# Altium footprint library Connector.PCBLIB: 82 footprints (part 1 of 6)
Each footprint in its own frame and in the unit in brackets; x right, y up, seen from the top. Pads: shape width x height; smd on the part's side, far side on the other; paste and mask are expansions set on the pad; w line width, h text height; cw(c..) or ccw(c..) is an arc to the next point about the centre after c.
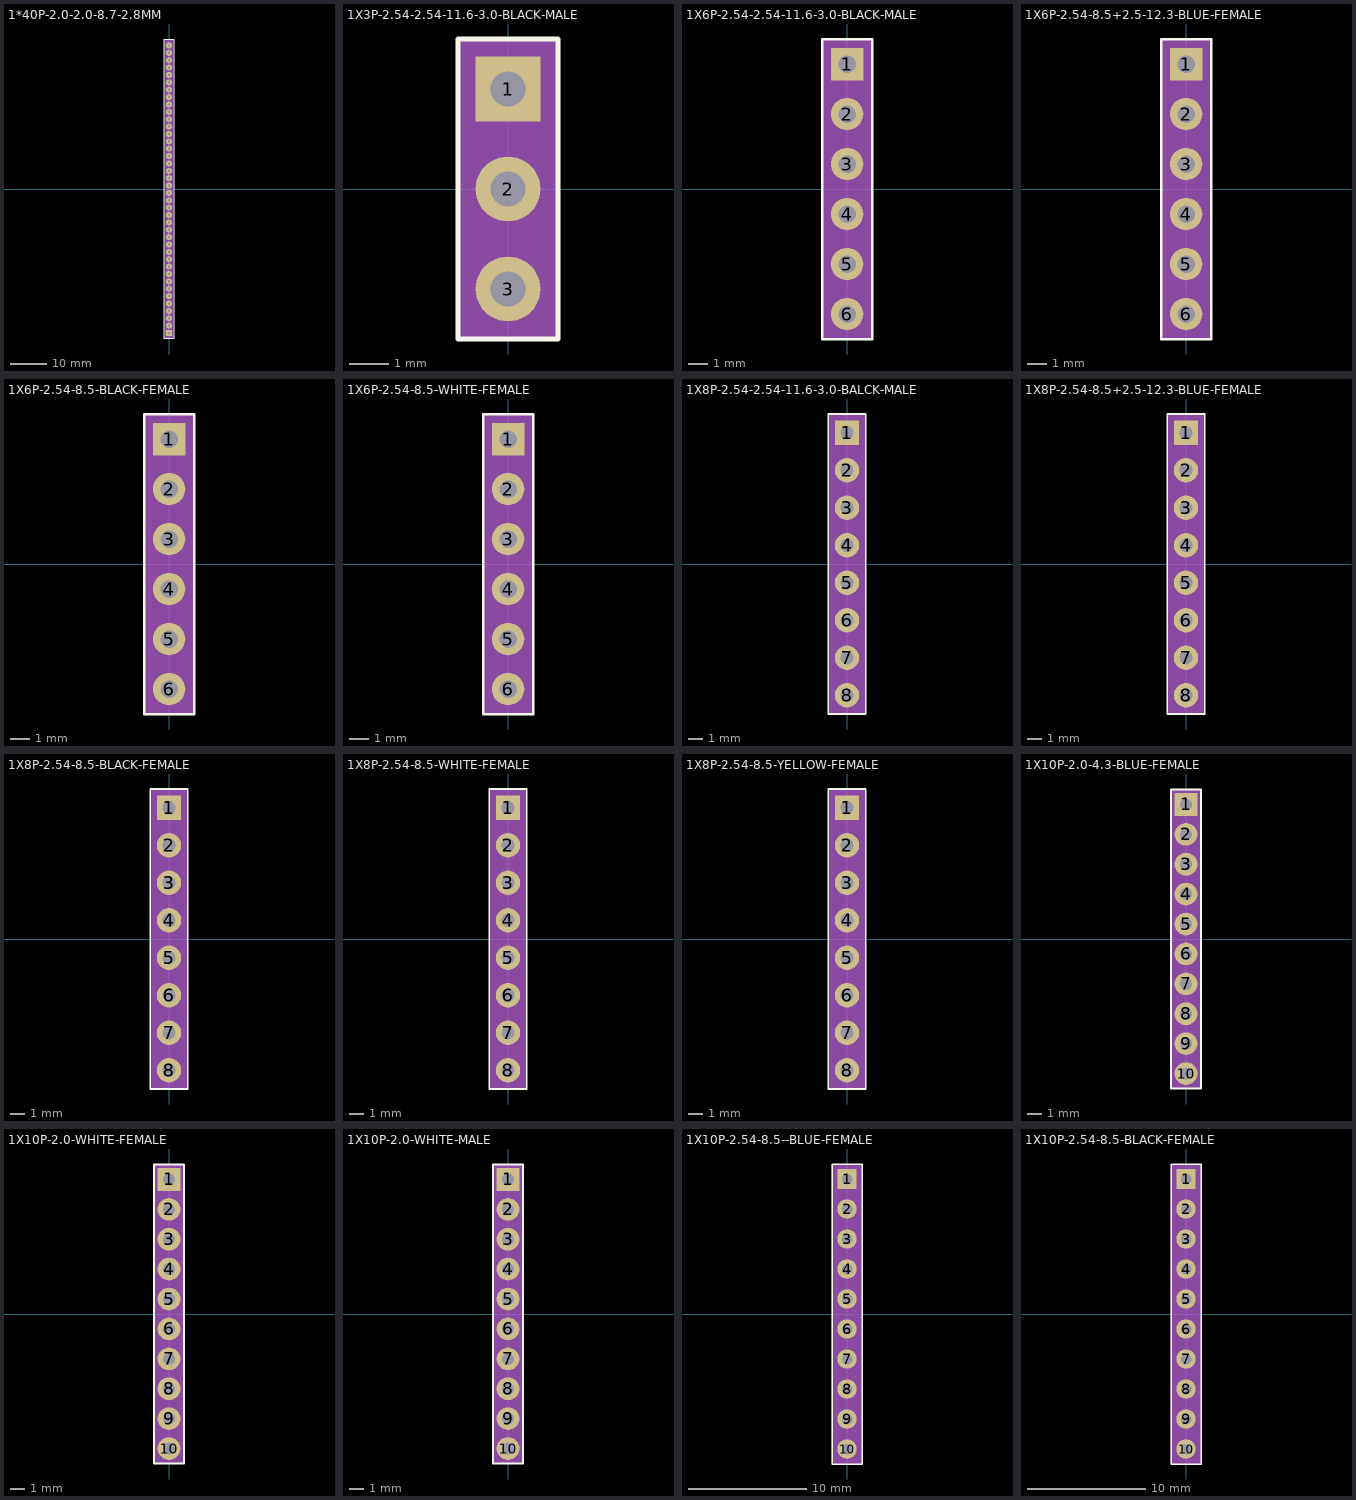
[diagram p0: the footprints below, top view; thin cyan lines are the x and y axes]

## 1*40P-2.0-2.0-8.7-2.8MM [mil]
pads (40):
  rect 65x65 hole 35: 1(0,-1535.43)
  round 65 hole 35: 2(0,-1456.69) 3(0,-1377.95) 4(0,-1299.21) 5(0,-1220.47) 6(0,-1141.73) 7(0,-1062.99) 8(0,-984.25) 9(0,-905.51) 10(0,-826.77) 11(0,-748.03) 12(0,-669.29) 13(0,-590.55) 14(0,-511.81) 15(0,-433.07) 16(0,-354.33) 17(0,-275.59) 18(0,-196.85) 19(0,-118.11) 20(0,-39.37) 21(0,39.37) 22(1,118.11) 23(0,196.85) 24(0,275.59) 25(0,354.33) 26(0,433.07) 27(0,511.81) 28(0,590.55) 29(0,669.29) 30(0,748.03) 31(0,826.77) 32(0,905.51) 33(0,984.25) 34(0,1062.99) 35(0,1141.73) 36(0,1220.47) 37(0,1299.21) 38(0,1377.95) 39(0,1456.69) 40(0,1535.43)
Top Overlay:
  lines w5: -50,-1600 50,-1600 50,1605 -50,1605 -50,-1600
Mechanical 27:
  rectangle: -50,-1600 50,1605

## 1X3P-2.54-2.54-11.6-3.0-BLACK-MALE [mil]
pads (3):
  rect 65x65 hole 35: 1(0,100)
  round 65 hole 35: 2(0,0) 3(0,-100)
Top Overlay:
  lines w5: -50,-150 50,-150 50,150 -50,150 -50,-150
Mechanical 27:
  rectangle: -50,-150 50,150
  lines w0: -50,-150 50,-150 50,150 -50,150 -50,-150

## 1X6P-2.54-2.54-11.6-3.0-BLACK-MALE [mil]
pads (6):
  rect 65x65 hole 35: 1(0,250)
  round 65 hole 35: 2(0,150) 3(0,50) 4(0,-50) 5(0,-150) 6(0,-250)
Top Overlay:
  lines w5: -50,-300 50,-300 50,300 -50,300 -50,-300
Mechanical 27:
  rectangle: -50,-300 50,300
  lines w0: -50,-300 50,-300 50,300 -50,300 -50,-300

## 1X6P-2.54-8.5+2.5-12.3-BLUE-FEMALE [mil]
pads (6):
  rect 65x65 hole 35: 1(0,250)
  round 65 hole 35: 2(0,150) 3(0,50) 4(0,-50) 5(0,-150) 6(0,-250)
Top Overlay:
  lines w5: -50,-300 50,-300 50,300 -50,300 -50,-300
Mechanical 27:
  rectangle: -50,-300 50,300
  lines w0: -50,-300 50,-300 50,300 -50,300 -50,-300

## 1X6P-2.54-8.5-BLACK-FEMALE [mil]
pads (6):
  rect 65x65 hole 35: 1(0,250)
  round 65 hole 35: 2(0,150) 3(0,50) 4(0,-50) 5(0,-150) 6(0,-250)
Top Overlay:
  lines w5: -50,-300 50,-300 50,300 -50,300 -50,-300
Mechanical 27:
  rectangle: -50,-300 50,300
  lines w0: -50,-300 50,-300 50,300 -50,300 -50,-300

## 1X6P-2.54-8.5-WHITE-FEMALE [mil]
pads (6):
  rect 65x65 hole 35: 1(0,250)
  round 65 hole 35: 2(0,150) 3(0,50) 4(0,-50) 5(0,-150) 6(0,-250)
Top Overlay:
  lines w5: -50,-300 50,-300 50,300 -50,300 -50,-300
Mechanical 27:
  rectangle: -50,-300 50,300
  lines w0: -50,-300 50,-300 50,300 -50,300 -50,-300

## 1X8P-2.54-2.54-11.6-3.0-BALCK-MALE [mil]
pads (8):
  rect 65x65 hole 35: 1(0,350)
  round 65 hole 35: 2(0,250) 3(0,150) 4(0,50) 5(0,-50) 6(0,-150) 7(0,-250) 8(0,-350)
Top Overlay:
  lines w5: -50,-400 50,-400 50,400 -50,400 -50,-400
Mechanical 27:
  rectangle: -50,-400 50,400

## 1X8P-2.54-8.5+2.5-12.3-BLUE-FEMALE [mil]
pads (8):
  rect 65x65 hole 35: 1(0,350)
  round 65 hole 35: 2(0,250) 3(0,150) 4(0,50) 5(0,-50) 6(0,-150) 7(0,-250) 8(0,-350)
Top Overlay:
  lines w5: -50,-400 50,-400 50,400 -50,400 -50,-400
Mechanical 27:
  rectangle: -50,-400 50,400

## 1X8P-2.54-8.5-BLACK-FEMALE [mil]
pads (8):
  rect 65x65 hole 35: 1(0,350)
  round 65 hole 35: 2(0,250) 3(0,150) 4(0,50) 5(0,-50) 6(0,-150) 7(0,-250) 8(0,-350)
Top Overlay:
  lines w5: -50,-400 50,-400 50,400 -50,400 -50,-400
Mechanical 27:
  rectangle: -50,-400 50,400

## 1X8P-2.54-8.5-WHITE-FEMALE [mil]
pads (8):
  rect 65x65 hole 35: 1(0,350)
  round 65 hole 35: 2(0,250) 3(0,150) 4(0,50) 5(0,-50) 6(0,-150) 7(0,-250) 8(0,-350)
Top Overlay:
  lines w5: -50,-400 50,-400 50,400 -50,400 -50,-400
Mechanical 27:
  rectangle: -50,-400 50,400

## 1X8P-2.54-8.5-YELLOW-FEMALE [mil]
pads (8):
  rect 65x65 hole 35: 1(0,350)
  round 65 hole 35: 2(0,250) 3(0,150) 4(0,50) 5(0,-50) 6(0,-150) 7(0,-250) 8(0,-350)
Top Overlay:
  lines w5: -50,-400 50,-400 50,400 -50,400 -50,-400
Mechanical 27:
  rectangle: -50,-400 50,400

## 1X10P-2.0-4.3-BLUE-FEMALE [mil]
pads (10):
  rect 60x60 hole 32: 1(0,354.33)
  round 60 hole 32: 2(0,275.59) 3(0,196.85) 4(0,118.11) 5(0,39.37) 6(0,-39.37) 7(0,-118.11) 8(0,-196.85) 9(0,-275.59) 10(0,-354.33)
Top Overlay:
  lines w5: -39.37,-393.7 39.37,-393.7 39.37,393.7 -39.37,393.7 -39.37,-393.7
Mechanical 27:
  rectangle: -40,-395 40,395

## 1X10P-2.0-WHITE-FEMALE [mil]
pads (10):
  rect 60x60 hole 32: 1(0,354.33)
  round 60 hole 32: 2(0,275.59) 3(0,196.85) 4(0,118.11) 5(0,39.37) 6(0,-39.37) 7(0,-118.11) 8(0,-196.85) 9(0,-275.59) 10(0,-354.33)
Top Overlay:
  lines w5: -39.37,-393.7 39.37,-393.7 39.37,393.7 -39.37,393.7 -39.37,-393.7
Mechanical 27:
  rectangle: -40,-395 40,395

## 1X10P-2.0-WHITE-MALE [mil]
pads (10):
  rect 60x60 hole 32: 1(0,354.33)
  round 60 hole 32: 2(0,275.59) 3(0,196.85) 4(0,118.11) 5(0,39.37) 6(0,-39.37) 7(0,-118.11) 8(0,-196.85) 9(0,-275.59) 10(0,-354.33)
Top Overlay:
  lines w5: -39.37,-393.7 39.37,-393.7 39.37,393.7 -39.37,393.7 -39.37,-393.7
Mechanical 27:
  rectangle: -40,-395 40,395

## 1X10P-2.54-8.5--BLUE-FEMALE [mil]
pads (10):
  rect 65x65 hole 35: 1(0,450)
  round 65 hole 35: 2(0,350) 3(0,250) 4(0,150) 5(0,50) 6(0,-50) 7(0,-150) 8(0,-250) 9(0,-350) 10(0,-450)
Top Overlay:
  lines w5: -50,-500 50,-500 50,500 -50,500 -50,-500
Mechanical 27:
  rectangle: -50,-500 50,500
  lines w0: -50,-500 50,-500 50,500 -50,500 -50,-500

## 1X10P-2.54-8.5-BLACK-FEMALE [mil]
pads (10):
  rect 65x65 hole 35: 1(0,450)
  round 65 hole 35: 2(0,350) 3(0,250) 4(0,150) 5(0,50) 6(0,-50) 7(0,-150) 8(0,-250) 9(0,-350) 10(0,-450)
Top Overlay:
  lines w5: -50,-500 50,-500 50,500 -50,500 -50,-500
Mechanical 27:
  rectangle: -50,-500 50,500
  lines w0: -50,-500 50,-500 50,500 -50,500 -50,-500